# Altium schematic symbol library oled.SchLib: 4 symbols
Pins are listed as number, name and electrical type; pins without a type are passive.

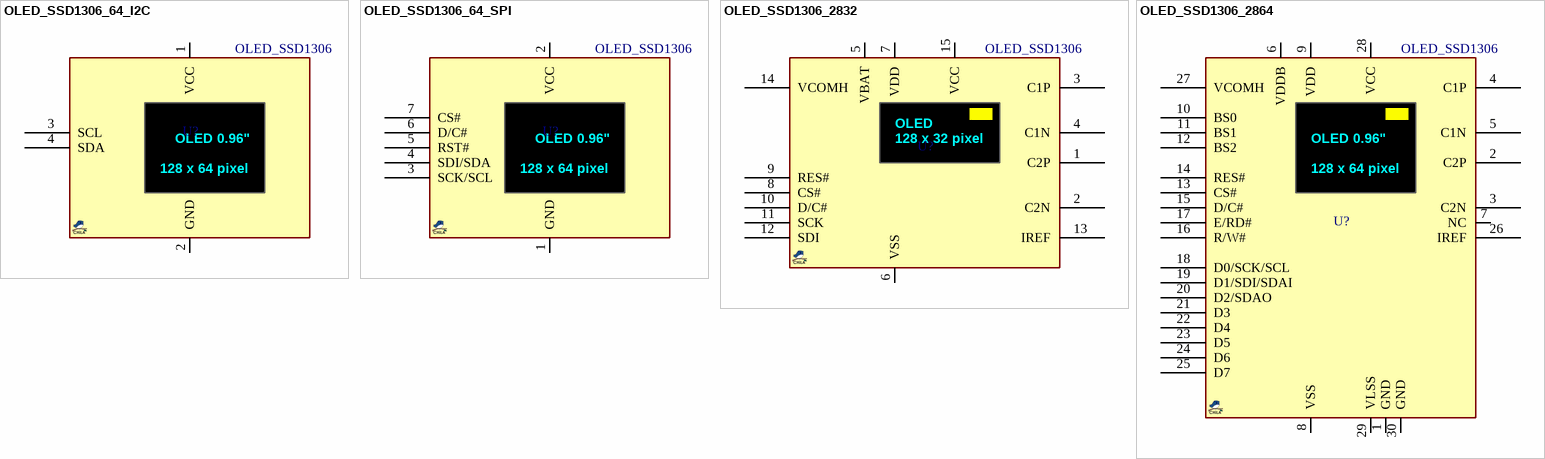
[diagram p0: symbols OLED_SSD1306_64_I2C to OLED_SSD1306_2864]

## OLED_SSD1306_64_I2C
designator U?, comment OLED_SSD1306
OLED, SSD1306, 0.96", 128X64, BREAKOUT I2C; MANF_P#: OLED_SSD1306_I2C; PARAM2: 3.3/5VCC, -20~70oC; PARAM: 2 Colors, 0.96", 128X64; MANF: -; VALUE: OLED_SSD1306
footprint OLED_SSD1306_64_I2C (OLED SS1306 Breakout, 128X64, I2C)
pins: 1 VCC, 2 GND, 3 SCL, 4 SDA
text: OLED 0.96"; 128 x 64 pixel

## OLED_SSD1306_64_SPI
designator U?, comment OLED_SSD1306
OLED, SSD1306, 0.96", 128X64, BREAKOUT SPI; MANF_P#: OLED_SSD1306_I2C; PARAM2: 3.3/5VCC, -20~70oC; PARAM: 2 Colors, 0.96", 128X64; MANF: -; VALUE: OLED_SSD1306
footprint OLED_SSD1306_64_SPI (OLED SS1306 Breakout, 128X64, SPI)
pins: 1 GND, 2 VCC, 3 SCK/SCL, 4 SDI/SDA, 5 RST#, 6 D/C#, 7 CS#
text: OLED 0.96"; 128 x 64 pixel

## OLED_SSD1306_2832
designator U?, comment OLED_SSD1306
OLED, SSD1306, 0.91", 128X64; MANF_P#: UG-2832HSWEG04; PARAM2: 1.65~3.3VDD, 9Vcc, -20~70oC; PARAM: 2 Colors, 0.91", 128X32; MANF: -; VALUE: OLED_SSD1306
footprint OLED_SSD1306_2832 (OLED Display UG-2832HSWEG04)
pins: 1 C2P, 2 C2N, 3 C1P, 4 C1N, 5 VBAT, 6 VSS, 7 VDD, 8 CS#, 9 RES#, 10 D/C#, 11 SCK, 12 SDI, 13 IREF, 14 VCOMH, 15 VCC
text: OLED; 128 x 32 pixel

## OLED_SSD1306_2864
designator U?, comment OLED_SSD1306
OLED, SSD1306, 0.96", 128X64; MANF_P#: UG-2864HMBEG01; PARAM2: 1.65~3.3VDD, 9Vcc, -20~70oC; PARAM: 2 Colors, 0.96", 128X64; MANF: -; VALUE: OLED_SSD1306
footprint OLED_SSD1306_64_SPI (OLED SS1306 Breakout, 128X64, SPI)
pins: 1 GND, 2 C2P, 3 C2N, 4 C1P, 5 C1N, 6 VDDB, 7 NC, 8 VSS, 9 VDD, 10 BS0, 11 BS1, 12 BS2, 13 CS#, 14 RES#, 15 D/C#, 16 R/W#, 17 E/RD#, 18 D0/SCK/SCL, 19 D1/SDI/SDAI, 20 D2/SDAO, 21 D3, 22 D4, 23 D5, 24 D6, 25 D7, 26 IREF, 27 VCOMH, 28 VCC, 29 VLSS, 30 GND
text: OLED 0.96"; 128 x 64 pixel